# EAGLE library part BGA2803 (library custom)
RF Amplifier Low Power 0-2.2GHz -8dBm P1dB 23dB Gain 3.4dB NF 2.7-3.3V 5.8mA
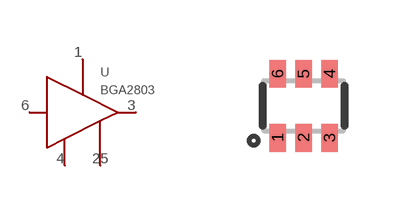
[diagram p105: symbol with the pads of SOT-363; footprint SOT-363]

Designator prefix U

## BGA2803  [SOT-363]
1  1-VCC
2  2-GND2
3  3-OUT
4  4-GND1
5  5-GND2
6  6-IN

## Footprint SOT-363 (pad centres in mm)
smd 0.42 x 0.7: 1 -0.65,-0.8; 2 0,-0.8; 3 0.65,-0.8; 4 0.65,0.8; 5 0,0.8; 6 -0.65,0.8